# Altium footprint library Passive.PcbLib: 235 footprints (part 13 of 15)
Each footprint in its own frame and in the unit in brackets; x right, y up, seen from the top. Pads: shape width x height; smd on the part's side, far side on the other; paste and mask are expansions set on the pad; w line width, h text height; cw(c..) or ccw(c..) is an arc to the next point about the centre after c.
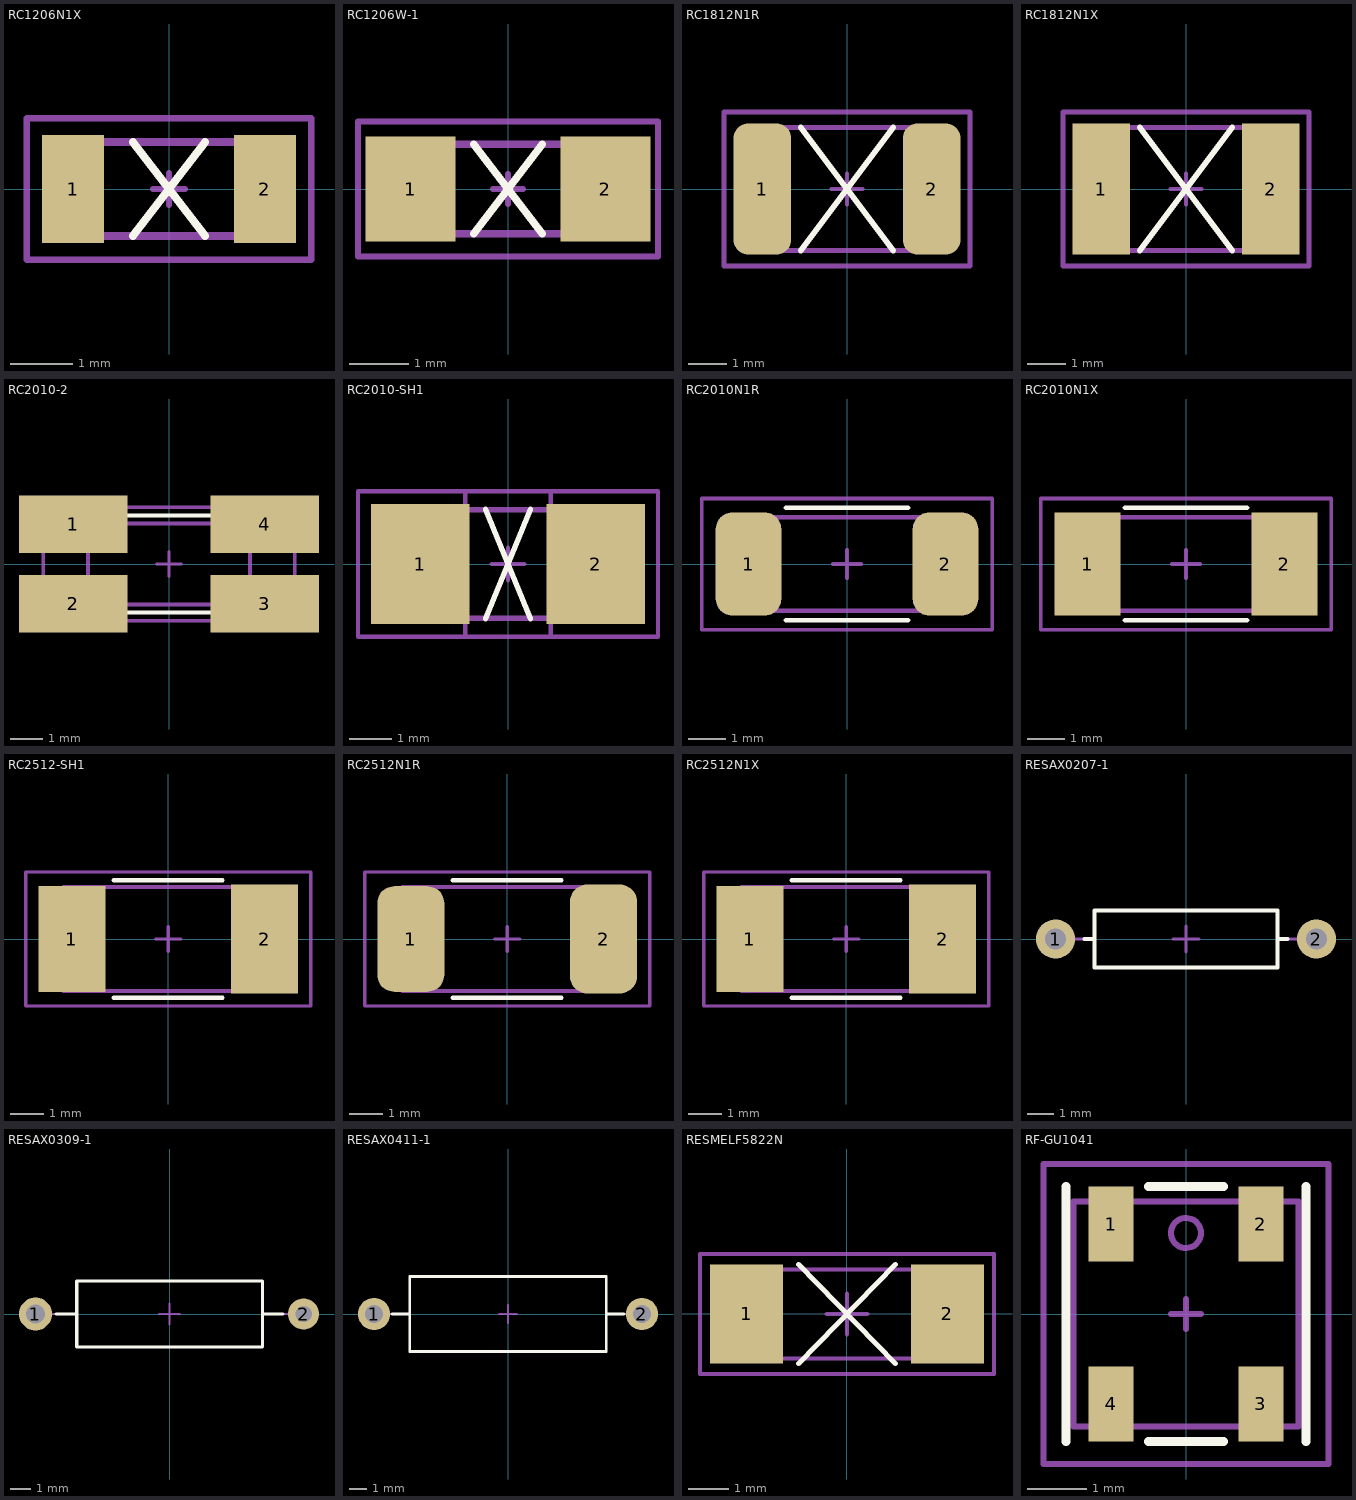
[diagram p12: the footprints below, top view; thin cyan lines are the x and y axes]

## RC1206N1X [mm] "Chip resistor 1206"
height 0.55
pads (2):
  rect 1x1.75 smd: 1(-1.55,0) 2(1.55,0)
Top Overlay:
  lines w0.127: -0.584,-0.762 0.584,0.762 ; -0.584,0.762 0.584,-0.762
Mechanical 13:
  lines w0.127: -1.55,-0.762 -1.55,0.762 1.55,0.762 1.55,-0.762 -1.55,-0.762
Mechanical 15:
  lines w0.1: -0.254,0 0.254,0 ; 0,-0.254 0,0.254 ; -2.3,-1.143 -2.3,1.143 2.3,1.143 2.3,-1.143 -2.3,-1.143
3D body: height 0.55, standoff 0, extent -1.55,-0.762 1.55,0.762
3D body: height 0.56, standoff 0.55, extent -1,-0.762 1,0.762

## RC1206W-1 [mil] "Chip resistor 1206 wave solder"
height 21.65
pads (2):
  rect 60x70 smd: 1(-64.96,0) 2(64.96,0)
Top Overlay:
  lines w5: -22.99,-30 22.99,30 ; -22.99,30 22.99,-30
Mechanical 13:
  lines w5: -60,-30 -60,30 60,30 60,-30 -60,-30
Mechanical 15:
  lines w3.94: -10,0 10,0 ; 0,-10 0,10 ; -100,-45 -100,45 100,45 100,-45 -100,-45
3D body: height 21.65, standoff 0, extent -60,-30 60,30
3D body: height 21.85, standoff 21.65, extent -39.37,-30 39.37,30

## RC1812N1R [mm] "Chip resistor 1812 ROUNDED PAD"
height 0.55
pads (2):
  rrect50% 1.5x3.4 smd: 1(-2.2,0) 2(2.2,0)
Top Overlay:
  lines w0.15: -1.2,-1.6 1.2,1.6 ; -1.2,1.6 1.2,-1.6
Mechanical 13:
  lines w0.127: -2.25,-1.6 -2.25,1.6 2.25,1.6 2.25,-1.6 -2.25,-1.6
Mechanical 15:
  lines w0.102: -0.4,0 0.4,0 ; 0,-0.4 0,0.4
  lines w0.127: -3.2,-2 3.2,-2 3.2,2 -3.2,2 -3.2,-2
3D body: height 0.56, standoff 0.55, extent -1.524,-1.6 1.524,1.6
3D body: height 0.55, standoff 0, extent -2.25,-1.6 2.25,1.6

## RC1812N1X [mm] "Chip resistor 1812"
height 0.55
pads (2):
  rect 1.5x3.4 smd: 1(-2.2,0) 2(2.2,0)
Top Overlay:
  lines w0.15: -1.2,-1.6 1.2,1.6 ; -1.2,1.6 1.2,-1.6
Mechanical 13:
  lines w0.127: -2.25,-1.6 -2.25,1.6 2.25,1.6 2.25,-1.6 -2.25,-1.6
Mechanical 15:
  lines w0.102: -0.4,0 0.4,0 ; 0,-0.4 0,0.4
  lines w0.127: -3.2,-2 3.2,-2 3.2,2 -3.2,2 -3.2,-2
3D body: height 0.56, standoff 0.55, extent -1.524,-1.6 1.524,1.6
3D body: height 0.55, standoff 0, extent -2.25,-1.6 2.25,1.6

## RC2010-2 [mm] "Chip resistor 2010"
height 0.5
pads (4):
  rect 3.4x1.8 smd: 1(-3,1.25) 2(-3,-1.25) 3(3,-1.25) 4(3,1.25)
Top Overlay:
  lines w0.127: -1.651,-1.524 1.651,-1.524 ; -1.651,1.524 1.651,1.524
Mechanical 13:
  lines w0.127: -2.54,-1.27 2.54,-1.27 2.54,1.27 -2.54,1.27 -2.54,-1.27
Mechanical 15:
  lines w0.1: -0.381,0 0.381,0 ; 0,-0.381 0,0.381
  lines w0.102: -3.937,-1.778 -3.937,1.778 3.937,1.778 3.937,-1.778 -3.937,-1.778
3D body: height 0.55, standoff 0, extent -2.54,-1.27 2.54,1.27
3D body: height 0.56, standoff 0.55, extent -1.8,-1.27 1.8,1.27

## RC2010-SH1 [mm] "Chip resistor 2010 shunt 5x2.5x0.6mm"
height 0.6
pads (2):
  rect 2.3x2.8 smd paste-0.2: 1(-2.05,0) 2(2.05,0)
Top Overlay:
  lines w0.127: -0.525,-1.275 0.525,1.275 ; -0.525,1.275 0.525,-1.275
Mechanical 13:
  lines w0.127: -2.54,-1.27 -2.54,1.27 2.54,1.27 2.54,-1.27 -2.54,-1.27
Mechanical 15:
  lines w0.1: -1,-1.7 -1,1.7 ; -0.381,0 0.381,0 ; 0,-0.381 0,0.381 ; 1,-1.7 1,1.7
  lines w0.102: -3.5,-1.7 3.5,-1.7 3.5,1.7 -3.5,1.7 -3.5,-1.7
3D body: height 0.6, standoff 0.1, extent -2.54,-1.265 2.54,1.275
3D body: height 0.1, standoff 0, extent -2.54,-1.27 -1,1.275
3D body: height 0.1, standoff 0, extent 1,-1.265 2.54,1.28

## RC2010N1R [mil] "Chip resistor 2010 ROUNDED PAD"
height 21.65
pads (2):
  rrect50% 70x110 smd: 1(-105,0) 2(105,0)
Top Overlay:
  lines w5: -65,-60 65,-60 ; -65,60 65,60
Mechanical 13:
  lines w5: -100,-50 -100,50 100,50 100,-50 -100,-50
Mechanical 15:
  lines w3.94: -15,0 15,0 ; 0,-15 0,15
  lines w4: -155,-70 155,-70 155,70 -155,70 -155,-70
3D body: height 21.85, standoff 21.65, extent -70.87,-50 70.87,50
3D body: height 21.65, standoff 0, extent -100,-50 100,50

## RC2010N1X [mil] "Chip resistor 2010"
height 21.65
pads (2):
  rect 70x110 smd: 1(-105,0) 2(105,0)
Top Overlay:
  lines w5: -65,-60 65,-60 ; -65,60 65,60
Mechanical 13:
  lines w5: -100,-50 100,-50 100,50 -100,50 -100,-50
Mechanical 15:
  lines w3.94: -15,0 15,0 ; 0,-15 0,15
  lines w4: -155,-70 -155,70 155,70 155,-70 -155,-70
3D body: height 21.65, standoff 0, extent -100,-50 100,50
3D body: height 21.85, standoff 21.65, extent -70.87,-50 70.87,50

## RC2512-SH1 [mil] "Chip Shunt resistor 2512"
height 19.68
pads (2):
  rect 80x126 smd: 1(-115,0)
  rect 80x130 smd: 2(115,0)
Top Overlay:
  lines w5: -65,-70 65,-70 ; -65,70 65,70
Mechanical 13:
  lines w5: -125,-62 -125,62 125,62 125,-62 -125,-62
Mechanical 15:
  lines w3.94: -15,0 15,0 ; 0,-15 0,15
  lines w4: -170,-80 170,-80 170,80 -170,80 -170,-80
3D body: height 7.87, standoff 0, extent 89.57,-62 125,62
3D body: height 7.87, standoff 0, extent -125,-62 -89.57,62
3D body: height 21.65, standoff 7.87, extent -125,-62 125,62

## RC2512N1R [mil] "Chip resistor 2512 ROUNDED PAD"
height 39.37
pads (2):
  rrect50% 80x126 smd: 1(-115,0)
  rrect50% 80x130 smd: 2(115,0)
Top Overlay:
  lines w5: -65,-70 65,-70 ; -65,70 65,70
Mechanical 13:
  lines w5: -125,-62 125,-62 125,62 -125,62 -125,-62
Mechanical 15:
  lines w3.94: -15,0 15,0 ; 0,-15 0,15
  lines w4: -170,-80 -170,80 170,80 170,-80 -170,-80
3D body: height 21.85, standoff 21.65, extent -90.55,-62 90.55,62
3D body: height 21.65, standoff 0, extent -125,-62 125,62

## RC2512N1X [mil] "Chip resistor 2512"
height 39.37
pads (2):
  rect 80x126 smd: 1(-115,0)
  rect 80x130 smd: 2(115,0)
Top Overlay:
  lines w5: -65,-70 65,-70 ; -65,70 65,70
Mechanical 13:
  lines w5: -125,-62 125,-62 125,62 -125,62 -125,-62
Mechanical 15:
  lines w3.94: -15,0 15,0 ; 0,-15 0,15
  lines w4: -170,-80 -170,80 170,80 170,-80 -170,-80
3D body: height 21.85, standoff 21.65, extent -90.55,-62 90.55,62
3D body: height 21.65, standoff 0, extent -125,-62 125,62

## RESAX0207-1 [mm] "Resistor axial 2x7mm R10mm"
height 2.5
pads (2):
  round 1.5 hole 0.8: 1(-5,0) 2(5,0)
Top Overlay:
  lines w0.15: -3.9,0 -3.5,0 ; 3.5,0 3.9,0 ; -3.5,-1.1 -3.5,1.1 3.5,1.1 3.5,-1.1 -3.5,-1.1
Mechanical 13:
  lines w0.102: -5,0 -3.5,0 ; 3.5,0 5,0 ; -3.5,-1.1 -3.5,1.1 3.5,1.1 3.5,-1.1 -3.5,-1.1
Mechanical 15:
  lines w0.102: -0.5,0 0.5,0 ; 0,-0.5 0,0.5
3D body: height 2.31, standoff 0.08, extent -0.2,-1.118 0.1,1.118
3D body: height 2.31, standoff 0.08, extent -0.9,-1.118 -0.6,1.118
3D body: height 2.31, standoff 0.08, extent -1.6,-1.118 -1.3,1.118
3D body: height 2.31, standoff 0.08, extent -2.3,-1.118 -2,1.118
3D body: height 1.5, standoff 0.9, extent 3.5,-0.299 5,0.299
3D body: height 1.5, standoff 0.9, extent 4.703,-0.297 5.3,0.3
3D body: height 1.2, standoff -3, extent 4.702,-0.299 5.3,0.3
3D body: height 1.2, standoff -3, extent -5.3,-0.3 -4.702,0.299
3D body: height 1.5, standoff 0.9, extent -5.3,-0.3 -4.703,0.297
3D body: height 1.5, standoff 0.9, extent -5,-0.299 -3.5,0.299
3D body: height 2.29, standoff 0.1, extent -3.5,-1.1 3.5,1.096

## RESAX0309-1 [mm] "Resistor axial 3x9mm R13mm"
height 2.5
pads (2):
  round 1.6 hole 0.9: 1(-6.5,0)
  round 1.5 hole 0.8: 2(6.5,0)
Top Overlay:
  lines w0.15: -5.5,0 -4.5,0 ; 4.5,0 5.5,0 ; -4.5,-1.6 4.5,-1.6 4.5,1.6 -4.5,1.6 -4.5,-1.6
Mechanical 13:
  lines w0.102: -6.5,0 -4.5,0 ; 4.5,0 6.5,0 ; -4.5,-1.6 4.5,-1.6 4.5,1.6 -4.5,1.6 -4.5,-1.6
Mechanical 15:
  lines w0.102: -0.5,0 0.5,0 ; 0,-0.5 0,0.5
3D body: height 32, standoff 0.2, extent -4.5,-1.6 4.5,1.6

## RESAX0411-1 [mm] "Resistor axial 4x11mm R15mm"
height 4.4
pads (2):
  round 1.8 hole 1: 1(-7.5,0) 2(7.5,0)
Top Overlay:
  lines w0.15: -6.5,0 -5.5,0 ; 5.5,0 6.5,0 ; -5.5,-2.1 -5.5,2.1 5.5,2.1 5.5,-2.1 -5.5,-2.1
Mechanical 13:
  lines w0.102: -7.5,0 -5.5,0 ; 5.5,0 7.5,0 ; -5.5,-2.1 5.5,-2.1 5.5,2.1 -5.5,2.1 -5.5,-2.1
Mechanical 15:
  lines w0.102: -0.5,0 0.5,0 ; 0,-0.5 0,0.5
3D body: height 4.5, standoff 0.3, extent -5.5,-2.1 5.5,2.1

## RESMELF5822N [mm] "MELF Resistor, 2-Leads, Body 5,8x2,2mm, IPC Medium Density"
height 2.2
pads (2):
  rect 1.8x2.45 smd: 1(-2.475,0) 2(2.475,0)
Top Overlay:
  lines w0.127: -1.2,1.225 1.2,-1.225 ; -1.2,-1.225 1.2,1.225 -1.2,-1.225
Mechanical 13:
  lines w0.1: -2.9,-1.1 -2.9,1.1 2.9,1.1 2.9,-1.1 -2.9,-1.1
Mechanical 15:
  lines w0.1: -0.5,0 0.5,0 ; 0,-0.5 0,0.5 ; -3.625,-1.475 -3.625,1.475 3.625,1.475 3.625,-1.475 -3.625,-1.475
3D body: height 2.19, standoff 0, extent -2.9,-1.1 -1.8,1.096
3D body: height 2.19, standoff 0, extent 1.8,-1.096 2.9,1.1
3D body: height 2.19, standoff 0, extent -1.8,-1.098 1.8,1.098

## RF-GU1041 [mil] "RF Choke 3.81x3.81mm 4pin"
height 150
pads (4):
  rect 30x50 smd: 1(-50,60) 2(50,60) 3(50,-60) 4(-50,-60)
Top Overlay:
  lines w5.91: -80,-85 -80,85 ; -25,-85 25,-85 ; -25,85 25,85 ; 80,-85 80,85
Mechanical 13:
  circle w4: c0,54 r10
  lines w4: -75,-75 75,-75 75,75 -75,75 -75,-75
Mechanical 15:
  lines w4: -10,0 10,0 ; 0,-10 0,10 ; -95,-100 -95,100 95,100 95,-100 -95,-100
3D body: height 150, standoff 0, extent -75,-75 75,75